# EAGLE library part WE-VDRM-171021501 (library Wurth_Elektronik_SemiConductors_rev15b)
MagI³C Power Module Product Family VDRM - Variable Step Down Regulator Module <http://katalog.we-online.de/media/images/pm/MagIC_2VDRM_pf2.jpg> Details see: http://katalog.we-online.de/en/pm/MagIC-VDRM/171021501 Updated on 2014-07-11 2014 (C) Würth Elektronik
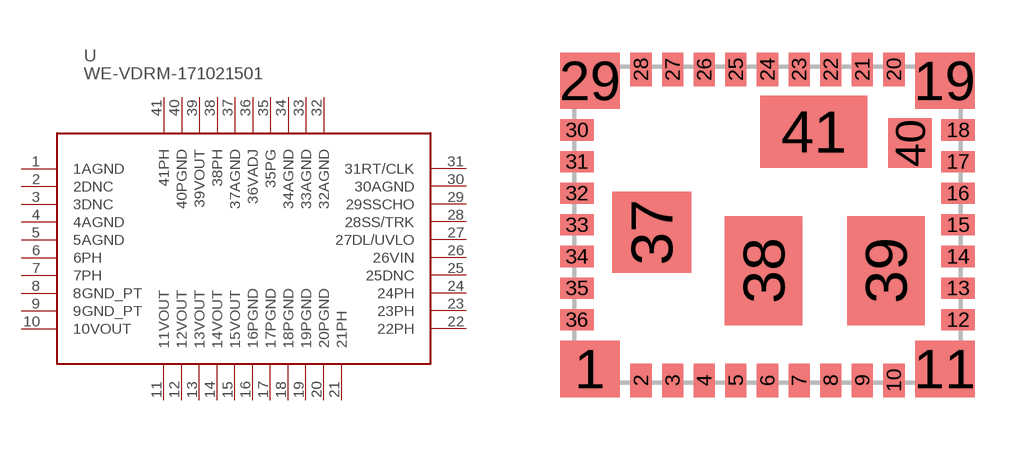
[diagram p4: symbol with the pads of BQFN-41; footprint BQFN-41]

Designator prefix U

## WE-VDRM-171021501  [BQFN-41]
1  1AGND
2  2DNC
3  3DNC
4  4AGND
5  5AGND
6  6PH
7  7PH
8  8GND_PT
9  9GND_PT
10  10VOUT
11  11VOUT
12  12VOUT
13  13VOUT
14  14VOUT
15  15VOUT
16  16PGND
17  17PGND
18  18PGND
19  19PGND
20  20PGND
21  21PH
22  22PH
23  23PH
24  24PH
25  25DNC
26  26VIN
27  27DL/UVLO
28  28SS/TRK
29  29SSCHO
30  30AGND
31  31RT/CLK
32  32AGND
33  33AGND
34  34AGND
35  35PG
36  36VADJ
37  37AGND
38  38PH
39  39VOUT
40  40PGND
41  41PH

## Footprint BQFN-41 (pad centres in mm)
smd 1.7 x 1.6: 1 -5.05,-4.1; 11 5.05,-4.1; 19 5.05,4.1; 29 -5.05,4.1
smd 0.6 x 0.95: 2 -3.6,-4.425; 3 -2.7,-4.425; 4 -1.8,-4.425; 5 -0.9,-4.425; 6 0,-4.425; 7 0.9,-4.425; 8 1.8,-4.425; 9 2.7,-4.425; 10 3.6,-4.425; 20 3.6,4.425; 21 2.7,4.425; 22 1.8,4.425; 23 0.9,4.425; 24 0,4.425; 25 -0.9,4.425; 26 -1.8,4.425; 27 -2.7,4.425; 28 -3.6,4.425
smd 0.95 x 0.6: 12 5.425,-2.7; 13 5.425,-1.8; 14 5.425,-0.9; 15 5.425,0; 16 5.425,0.9; 17 5.425,1.8; 18 5.425,2.7; 30 -5.425,2.7; 31 -5.425,1.8; 32 -5.425,0.9; 33 -5.425,0; 34 -5.425,-0.9; 35 -5.425,-1.8; 36 -5.425,-2.7
smd 2.25 x 2.3: 37 -3.3,-0.21
smd 2.2 x 3.1: 38 -0.11,-1.3; 39 3.37,-1.3
smd 1.24 x 1.4: 40 4.06,2.33
smd 3.05 x 2.04: 41 1.32,2.65